# Altium schematic symbol library trailGuard.SchLib: 3 symbols
Pins are listed as number, name and electrical type; pins without a type are passive.

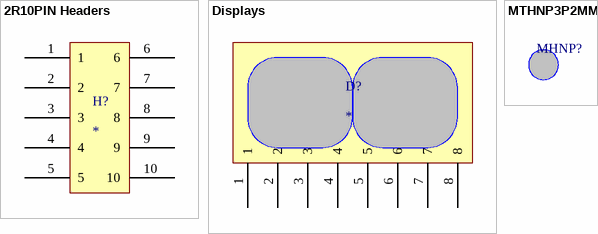
[diagram p0: symbols 2R10PIN Headers to MTHNP3P2MM]

## 2R10PIN Headers
designator H?
PCB Mount Header, Vertical, Board-to-Board, 10 Position, 2.54 mm [.1 in] Centerline, Breakaway, Tin, Through Hole - Solder, Signal, AMPMODU Headers
footprint 2R10PIN Headers
pins: 1, 2, 3, 4, 5, 6, 7, 8, 9, 10

## Displays
designator D?
footprint Display
pins: 1, 2, 3, 4, 5, 6, 7, 8

## MTHNP3P2MM
designator MHNP?, comment Mounting Hole Non-Plated 3.2mm  (value not drawn)
Mounting Hole Non-Plated 3.2mm Drill Hole
footprint MTHNP3P3MM (Mounting hole Non-Plated 3.2mm Hole)